# EAGLE library part RESISTOR_ARRAY (library devkit)
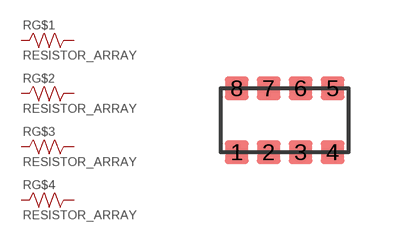
[diagram p5: symbol with the pads of EXBV8V; footprint EXBV8V]

Designator prefix R; gates G$1=RESISTOR G$2=RESISTOR G$3=RESISTOR G$4=RESISTOR

## RESISTOR_ARRAY  [EXBV8V]
1  G$1:1
2  G$2:1
3  G$3:1
4  G$4:1
5  G$4:2
6  G$3:2
7  G$2:2
8  G$1:2

## Footprint EXBV8V (pad centres in mm)
smd 0.6 x 0.6: 1 -1.2,-0.8; 2 -0.4,-0.8; 3 0.4,-0.8; 4 1.2,-0.8; 5 1.2,0.8; 6 0.4,0.8; 7 -0.4,0.8; 8 -1.2,0.8